# Altium schematic symbol library mechanical.SchLib: 3 symbols
Pins are listed as number, name and electrical type; pins without a type are passive.

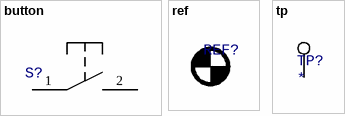
[diagram p0: symbols button to tp]

## button
designator S?  (value not drawn)
pins: 1, 2

## ref
designator REF?  (value not drawn)

## tp
designator TP?
pins: 1